# Altium footprint library avago-packages.PcbLib: 4 footprints
Each footprint in its own frame and in the unit in brackets; x right, y up, seen from the top. Pads: shape width x height; smd on the part's side, far side on the other; paste and mask are expansions set on the pad; w line width, h text height; cw(c..) or ccw(c..) is an arc to the next point about the centre after c.
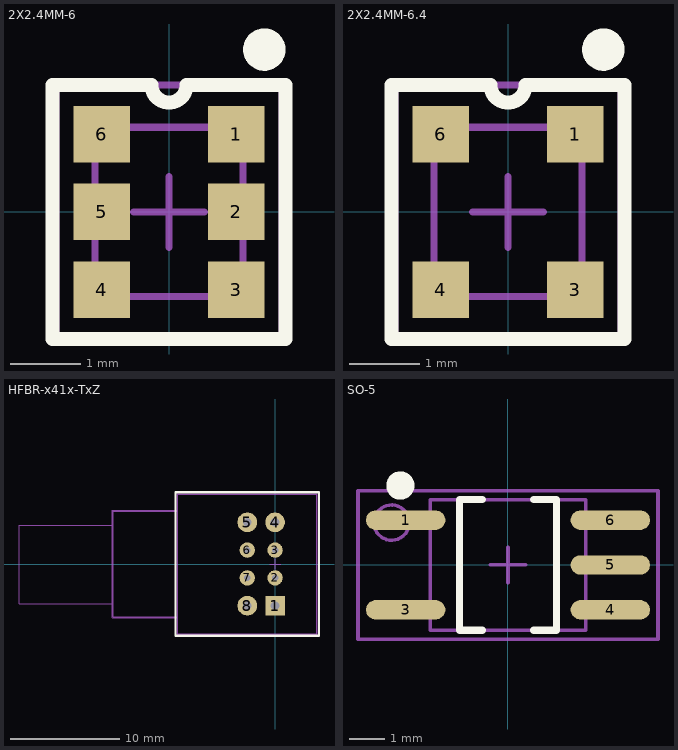
[diagram p0: the footprints below, top view; thin cyan lines are the x and y axes]

## 2X2.4MM-6 [mm] "Photosensor 2mm X 2.4mm 6 Pins"
height 0.8
pads (6):
  rect 0.8x0.8 smd: 1(0.95,1.1) 2(0.95,0) 3(0.95,-1.1) 4(-0.95,-1.1) 5(-0.95,0) 6(-0.95,1.1)
Top Overlay:
  circle w0.3: c1.35,2.3 r0.15
  lines w0.2: -1.65,-1.8 1.65,-1.8 1.65,1.8 0.25,1.8 cw(c0,1.8) -0.25,1.8 -1.65,1.8 -1.65,-1.8
Mechanical 13:
  lines w0.1: -0.5,0 0.5,0 ; 0,-0.5 0,0.5 ; -1.05,-1.2 1.05,-1.2 1.05,1.2 -1.05,1.2 -1.05,-1.2
Mechanical 15:
  circle w0.1: c0.925,1.1 r0.325
  lines w0.1: -1.6,-1.8 1.6,-1.8 1.6,1.8 -1.6,1.8 -1.6,-1.8
  text ".Designator" at -0.8,-0.6 h0.5
3D body: height 0.3, standoff 0, extent -1.05,-1.2 1.05,1.2
3D body: height 0.8, standoff 0.3, extent -0.7,-1.2 0.7,1.2

## 2X2.4MM-6.4 [mm] "Photosensor 2mm X 2.4mm 6 Pins"
height 0.8
pads (4):
  rect 0.8x0.8 smd: 1(0.95,1.1) 3(0.95,-1.1) 4(-0.95,-1.1) 6(-0.95,1.1)
Top Overlay:
  circle w0.3: c1.35,2.3 r0.15
  lines w0.2: -1.65,-1.8 1.65,-1.8 1.65,1.8 0.25,1.8 cw(c0,1.8) -0.25,1.8 -1.65,1.8 -1.65,-1.8
Mechanical 13:
  lines w0.1: -0.5,0 0.5,0 ; 0,-0.5 0,0.5 ; -1.05,-1.2 1.05,-1.2 1.05,1.2 -1.05,1.2 -1.05,-1.2
Mechanical 15:
  circle w0.1: c0.925,1.1 r0.325
  lines w0.1: -1.6,-1.8 1.6,-1.8 1.6,1.8 -1.6,1.8 -1.6,-1.8
  text ".Designator" at -0.8,-0.6 h0.8
3D body: height 0.3, standoff 0, extent -1.05,-1.2 1.05,1.2
3D body: height 0.8, standoff 0.3, extent -0.7,-1.2 0.7,1.2

## HFBR-x41x-TxZ [mm] "Fiber Optices ST"
pads (8):
  rect 1.8x1.8 hole 0.8: 1(0,-3.81)
  round 1.4 hole 0.6: 2(0,-1.27) 3(0,1.27) 6(-2.54,1.27) 7(-2.54,-1.27)
  round 1.8 hole 0.8: 4(0,3.81) 5(-2.54,3.81) 8(-2.54,-3.81)
Top Overlay:
  lines w0.2: -9.1,-6.55 4.01,-6.55 4.01,6.55 -9.1,6.55 -9.1,-6.55
Mechanical 13:
  lines w0.1: -8.9,-6.35 3.81,-6.35 3.81,6.35 -8.9,6.35 ; -8.89,-6.35 -8.89,-4.8 -14.79,-4.8 ; -8.89,6.35 -8.89,4.8 -14.79,4.8 ; -0.5,0 0.5,0 ; 0,-0.5 0,0.5 ; -14.79,-4.8 -14.79,4.8 ; -14.79,-4.8 -14.79,-3.65 -23.4,-3.65 -23.4,3.525 -14.79,3.525 -14.79,4.8 ; -8.89,-6.25 -8.89,6.25 -8.89,-6.25
Mechanical 15:
  lines w0.1: -8.99,-4.9 -14.89,-4.9 -14.89,4.9 -8.99,4.9 ; -8.95,-6.4 -8.95,6.4 3.86,6.4 3.86,-6.4 -8.95,-6.4
  text ".Designator" at -2.25,-2.25 h0.5
3D body: height 10.2, standoff -3.6, extent -23.39,-6.348 3.81,6.348

## SO-5 [mm] "SOIC, 6-Leads, Body 3.7x4.4mm (max), Pitch 1.27mm, IPC Medium Density"
height 2.5
pads (5):
  oval 2.25x0.55 smd: 1(-2.9,1.27) 3(-2.9,-1.27) 4(2.9,-1.27) 5(2.9,0) 6(2.9,1.27)
Top Overlay:
  circle w0.4: c-3.05,2.25 r0.2
  lines w0.2: -0.725,-1.85 -1.375,-1.85 -1.375,1.85 -0.725,1.85 ; 0.725,-1.85 1.375,-1.85 1.375,1.85 0.725,1.85
Mechanical 13:
  lines w0.1: -0.5,0 0.5,0 ; 0,-0.5 0,0.5 ; -2.2,-1.85 -2.2,1.85 2.2,1.85 2.2,-1.85 -2.2,-1.85
Mechanical 15:
  circle w0.1: c-3.3,1.2 r0.5
  lines w0.1: -4.25,-2.1 -4.25,2.1 4.25,2.1 4.25,-2.1 -4.25,-2.1
  text ".Designator" at -2.3,-0.4 h0.8
3D body: height 2.5, standoff 0.02, extent -3.5,-1.8 3.5,1.8